# EAGLE library part SDCARD (library Bulkhead Flight Computer)
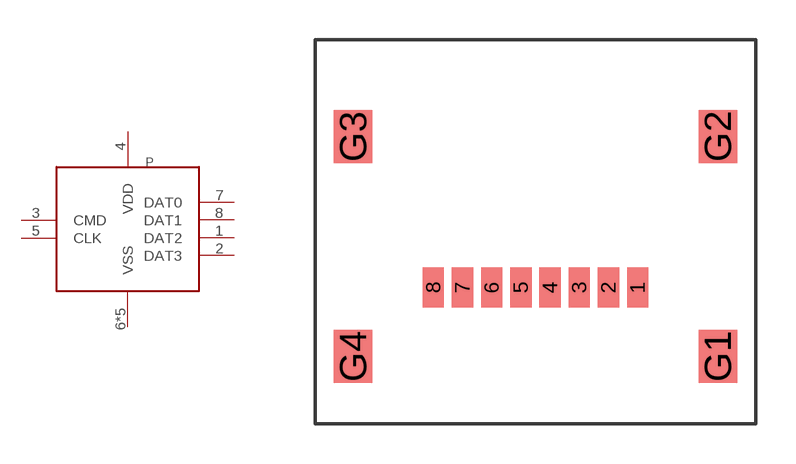
[diagram p11: symbol with the pads of 0472192001; footprint 0472192001]

Designator prefix P

## SDCARD  [0472192001]
1  DAT2
2  DAT3
3  CMD
4  VDD  pwr
5  CLK
6  VSS  pas
7  DAT0
8  DAT1
G1  VSS  pas
G2  VSS  pas
G3  VSS  pas
G4  VSS  pas

## Footprint 0472192001 (pad centres in mm)
smd 0.8 x 1.5: 1 3.85,0; 2 2.75,0; 3 1.65,0; 4 0.55,0; 5 -0.55,0; 6 -1.65,0; 7 -2.75,0; 8 -3.85,0
smd 1.45 x 2: G1 6.875,-2.6; G2 6.875,5.7; G3 -6.875,5.7; G4 -6.875,-2.6